# Altium schematic symbol library General.SchLib: 31 symbols
Pins are listed as number, name and electrical type; pins without a type are passive.

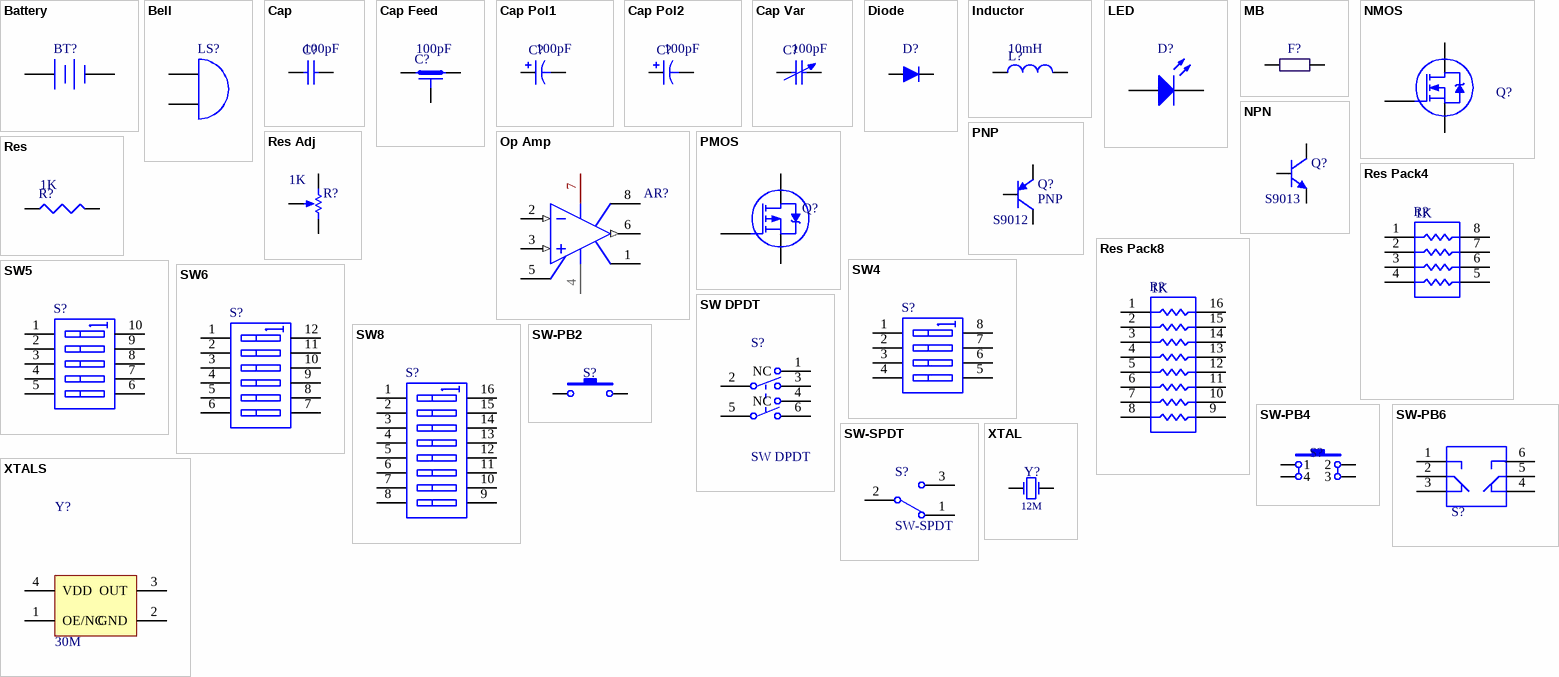
[diagram p0: symbols Battery to XTALS]

## Battery
designator BT?
Battery; Published: 24-Mar-1999; LatestRevisionDate: 17-Jul-2002; LatestRevisionNote: Re-released for DXP Platform.; PackageReference: BAT-2; Publisher: Altium Limited; PackageDescription: Battery; 2 Leads
footprint BATTERY
pins: 1 +, 2 -

## Bell
designator LS?
Electrical Bell; Published: 24-Mar-1999; LatestRevisionDate: 17-Jul-2002; LatestRevisionNote: Re-released for DXP Platform.; PackageReference: PIN2; Publisher: Altium Limited
footprint Beep 9*5mm (蜂鸣器9mm*5mm)
pins: 1 A, 2 B

## Cap
designator C?  value 100pF
Capacitor; Published: 8-Jun-2000; LatestRevisionDate: 29-May-2009; LatestRevisionNote: IPC-7351 Footprint Added.; PackageReference: C1206; Publisher: Altium Limited; PackageDescription: Chip Capacitor
footprint C0603 (Chip Capacitor, Body 1.6x0.8mm, IPC High Density)
footprint C0402 (Chip Capacitor, Body 1.0x0.5mm, IPC High Density)
footprint C0805_N (Chip Capacitor, Body 2.0x1.2mm, IPC Medium Density)
footprint C0805_L (Chip Capacitor, Body 2.0x1.2mm, IPC High Density)
footprint C1206 (Chip Capacitor, 2-Leads, Body 3.20x1.60mm, IPC Medium Density)
footprint C1210 (Chip Capacitor, Body 3.2x2.5mm, IPC High Density)
footprint C1812 (Chip Capacitor, Body 4.5x3.2mm, IPC High Density)
footprint C2010 (Chip Capacitor, Body 5.0x2.5mm, IPC High Density)
footprint C2220 (Chip Capacitor, Body 5.7x5.0mm, IPC High Density)
footprint C2512 (Chip Capacitor, Body 6.4x3.2mm, IPC High Density)
pins: 1, 2

## Cap Feed
designator C?  value 100pF
Feed-Through Capacitor; Note: Commonly used for bypassing high-frequency currents to chassis; Published: 24-Mar-1999; LatestRevisionDate: 17-Jul-2002; LatestRevisionNote: Re-released for DXP Platform.; PackageReference: VR4; Publisher: Altium Limited; PackageDescription: Variable Resistor, Thru-Hole; 3 Leads
footprint C-Feed0603 (穿芯电容 SMD 0603 (1608)  低密度)
footprint C-Feed0805 (穿芯电容0805-低密度)
pins: 1, 2, 3

## Cap Pol1
designator C?  value 100pF
Polarized Capacitor (Surface Mount); Published: 8-Jun-2000; LatestRevisionDate: 17-Jul-2002; LatestRevisionNote: Re-released for DXP Platform.; PackageReference: POLAR0.8; Publisher: Altium Limited; PackageDescription: Polarized Capacitor; 2 Leads
footprint C-AVX-3216 (钽电容3.2*1.6mm)
footprint C-AVX-3528 (钽电容3.5*2.8mm)
footprint C-AVX-6032 (钽电容6*3.2mm)
footprint C-AVX-7343 (钽电容7.3*4.3mm 低密度)
footprint C-RB-SD3
footprint C-RB-SD4 (贴片铝电解)
footprint C-RB-SD5
footprint C-RB-SD6.3 (贴片铝电解)
footprint C-RB-SD7
footprint C-RB-SD8 (贴片铝电解)
footprint C-RB-SD10 (贴片铝电解)
footprint C-RB-SD12.5
footprint C-RB-SD16
pins: 1, 2
1 alternate drawing of the same symbol

## Cap Pol2
designator C?  value 100pF
Polarized Capacitor (Radial); Published: 8-Jun-2000; LatestRevisionDate: 17-Jul-2002; LatestRevisionNote: Re-released for DXP Platform.; PackageReference: POLAR0.8; Publisher: Altium Limited; PackageDescription: Polarized Capacitor; 2 Leads
footprint C-DIP-5 (2.5*5*11mm  22uF/50V)
footprint C-DIP-8 (3.5*8*12mm  470uF/25V)
footprint C-DIP-10 (5*10*17mm  470uF/35V 1000uF/25V)
footprint C-DIP-16 (7.5*15*25mm  2200uF/35V)
footprint C-DIP-18 (10*20*31.5mm  4700uF/50V)
footprint C-RAD-0.1 (Radial Cap, Thru-Hole; 2 Leads; 100mil(2.54mm) in Pin Spacing)
footprint C-RAD-0.2 (Radial Cap, Thru-Hole; 2 Leads; 200mil(5.08mm) in Pin Spacing)
footprint C-RAD-0.3 (Radial Cap, Thru-Hole; 2 Leads; 0.3 in Pin Spacing)
footprint C-RAD-0.4 (Radial Cap, Thru-Hole; 2 Leads; 0.4 in Pin Spacing)
footprint C-RAD-22mm
footprint C-RAD-15MM (Radial Cap, Thru-Hole; 2 Leads; 15mm in Pin Spacing)
pins: 1, 2
1 alternate drawing of the same symbol

## Cap Var
designator C?  value 100pF
Variable or Adjustable Capacitor; Published: 24-Mar-1999; LatestRevisionDate: 29-May-2009; LatestRevisionNote: IPC-7351 Footprint Added.; PackageReference: C1210; Publisher: Altium Limited; PackageDescription: Chip Capacitor 1210 Case Size; Code_JEITA: 1210; Code_IPC: CAPC3225
footprint C-Var-TZB4 (muRata Ceramic Trimmer Capacitors, TZB4, 4.0(W)x4.5(L)x3.0(H)mm)
footprint C-Var-TZC3P (muRata Ceramic Trimmer Capacitors, TZC3, 3.2(W)x4.5(L)x1.6(H)mm)
pins: 1, 2

## Diode
designator D?
Default Diode; Published: 8-Jun-2000; LatestRevisionDate: 17-Jul-2002; LatestRevisionNote: Re-released for DXP Platform.; PackageVersion: Sep-1996; PackageReference: SMC; Publisher: Altium Limited; PackageDescription: DO-214-AB/SMC; 2 C-Bend Leads; Body 7.9 x 5.9 mm, inc. leads (LxW); Code_JEDEC: DO-214-AB
footprint D-SMA
footprint D-SMB (DO-214-AA/SMB;)
footprint D-SMC (贴片二极管)
footprint D-LL34
footprint SOD-123 (SOD, 2-Leads, Body 2.69x1.6mm)
footprint SOD-323 (SOD, 2-Leads, Body 1.7x1.25mm)
footprint SOD-523 (SOD, 2-Leads, Body 1.2x0.8mm)
footprint SOD-923 (SOD, 2-Leads, Body 0.8x0.6mm)
pins: 1 A, 2 K

## Inductor
designator L?  value 10mH
Inductor; Code_IEC: 1005; Published: 8-Jun-2000; LatestRevisionDate: 29-May-2009; LatestRevisionNote: IPC-7351 Footprint Added.; PackageReference: 0402-A; Publisher: Altium Limited; PackageDescription: Chip Inductor; Code_JEITA: 0402
footprint L0603 (Chip Inductor, Body 1.6x0.8mm, IPC High Density)
footprint L0805_L (Chip Inductor, Body 2.0x1.2mm, IPC High Density)
footprint L0805_N (Chip Inductor, Body 2.0x1.2mm, IPC Medium Density)
footprint XFL4020 (W*L*H 4mm*4mm*2mm)
footprint WHC0420 (7*7*3,4A)
footprint WHC1265 (12.8*13.2*5,7.5A)
footprint L-SMD-12*12MM (功率电感 1.2cm*1.2cm)
footprint L-SMD-7*7mm (贴片电感7*7mm)
footprint L-SOP74
footprint L-RB-8 (工字电感 直立)
footprint L-RB-8F (工字电感   侧卧电感)
pins: 1, 2

## LED
designator D?
Typical LED; Published: 8-Jun-2000; LatestRevisionDate: 08-Jul-2005; LatestRevisionNote: Mech Layer 1 removed.; PackageReference: LED-0; Publisher: Altium Limited; PackageDescription: LED; 2 Leads
footprint LED0603 (Chip LED, Body 1.6x0.8mm, IPC High Density)
footprint LED0805 (Chip LED, Body 2.0x1.2mm, IPC Medium Density)
footprint LED1206 (贴片元件)
footprint LED3528 (SM LED; 2 C-Bend Leads; Body 3.5 x 2.8 x 1.9 mm, inc leads (LxWxH typ))
pins: 1 A, 2 K

## MB
designator F?  (value not drawn)
铁氧体磁珠
footprint MB0603 (Chip Resistor, Body 1.6x0.8mm, IPC High Density)
footprint MB0805_L (Chip Resistor, Body 2.0x1.2mm, IPC High Density)
footprint MB0805_M (Chip Resistor, Body 2.0x1.2mm, IPC Medium Density)
footprint MB1206 (Chip Resistor, 2-Leads, Body 3.20x1.60mm, IPC Medium Density)
footprint MB-AXIL
pins: 1 (power), 2 (power)

## NMOS
designator Q?
N-Channel Power MOSFET; Note: Pin 2 is electrically connected to pin 4.; Published: 8-Jun-2000; LatestRevisionDate: 17-Jul-2002; LatestRevisionNote: Re-released for DXP Platform.; DatasheetVersion: PD-9.814; PackageVersion: Feb-1997; PackageReference: TO-220AB; Publisher: Altium Limited; PackageDescription: TO, Thru-Hole, Vertical, Heatsink Mounted; 3 In-Line Leads; Pitch 2.54 mm; ComponentLink1Description: Manufacturer Link; ComponentLink1URL: http://www.irf.com/
footprint SOT23-3_L (SOT23, 3-Leads, Body 2.9x1.3mm, Pitch 0.95mm, Lead Span 2.3mm - Reverse Pinning, IPC High Density)
footprint SOT23-3_M (SOT23, 3-Leads, Body 2.9x1.3mm, Pitch 0.95mm, Lead Span 2.3mm - Reverse Pinning, IPC Low Density)
footprint SOT23-3_N (SOT23, 3-Leads, Body 2.9x1.3mm, Pitch 0.95mm, Lead Span 2.3mm - Reverse Pinning, IPC Medium Density)
pins: 1 G, 2 S, 3 D

## NPN
designator Q?  Model: S9013  (hidden comment: NPN)
NPN General Purpose Amplifier
footprint TO-92C-S
footprint TO-226 (TO, Flat Index; 3 In-Line, Axial Leads; Body Dia. 4.8mm; Leads 0.55 x 0.51 mm (max))
footprint SOT23-3_L (SOT23, 3-Leads, Body 2.9x1.3mm, Pitch 0.95mm, Lead Span 2.3mm - Reverse Pinning, IPC High Density)
footprint SOT23-3_M (SOT23, 3-Leads, Body 2.9x1.3mm, Pitch 0.95mm, Lead Span 2.3mm - Reverse Pinning, IPC Low Density)
footprint SOT23-3_N (SOT23, 3-Leads, Body 2.9x1.3mm, Pitch 0.95mm, Lead Span 2.3mm - Reverse Pinning, IPC Medium Density)
pins: 1 B, 2 E, 3 C

## Op Amp
designator AR?
General Operational Amplifier; Published: 8-Jun-2000; LatestRevisionDate: 17-Jul-2002; LatestRevisionNote: Re-released for DXP Platform.; DatasheetVersion: REV. B; PackageVersion: 1990; PackageReference: H-08A; Publisher: Altium Limited; PackageDescription: Can; 8 Leads; Pin Circle Dia. 5.08 mm; Lead Dia. 0.53 mm (max); ComponentLink1Description: Manufacturer Link; ComponentLink1URL: http://www.analog.com/
footprint SOIC8_L (SOIC, 8-Leads, Body 4.9x3.9mm, Pitch 1.27mm, IPC High Density)
footprint SOIC8_M (SOIC, 8-Leads, Body 4.9x3.9mm, Pitch 1.27mm, IPC Low Density)
footprint SOIC8_N (SOIC, 8-Leads, Body 4.9x3.9mm, Pitch 1.27mm, IPC Medium Density)
pins: 1 OS NUL, 2 IN- (in), 3 IN+ (in), 4 V- (power), 5 OS NUL, 6 OUT (out), 7 V+ (power), 8 TAB

## PMOS
designator Q?
P-Channel Power MOSFET; Note: Pin 4 not drawn and electrically connected to Pin 2.; Published: 8-Jun-2000; LatestRevisionDate: 17-Jul-2002; LatestRevisionNote: Re-released for DXP Platform.; DatasheetVersion: PD-9.390D; PackageVersion: Feb-1997; PackageReference: TO-220AB; Publisher: Altium Limited; PackageDescription: TO, Thru-Hole, Vertical, Heatsink Mounted; 3 In-Line Leads; Pitch 2.54 mm; ComponentLink1Description: Manufacturer Link; ComponentLink1URL: http://www.irf.com/
footprint SOT23-3_L (SOT23, 3-Leads, Body 2.9x1.3mm, Pitch 0.95mm, Lead Span 2.3mm - Reverse Pinning, IPC High Density)
footprint SOT23-3_M (SOT23, 3-Leads, Body 2.9x1.3mm, Pitch 0.95mm, Lead Span 2.3mm - Reverse Pinning, IPC Low Density)
footprint SOT23-3_N (SOT23, 3-Leads, Body 2.9x1.3mm, Pitch 0.95mm, Lead Span 2.3mm - Reverse Pinning, IPC Medium Density)
pins: 1 G, 2 S, 3 D

## PNP
designator Q?  Model: S9012
PNP General Purpose Amplifier
footprint TO-92C-S
footprint TO-226 (TO, Flat Index; 3 In-Line, Axial Leads; Body Dia. 4.8mm; Leads 0.55 x 0.51 mm (max))
footprint SOT23-3_L (SOT23, 3-Leads, Body 2.9x1.3mm, Pitch 0.95mm, Lead Span 2.3mm - Reverse Pinning, IPC High Density)
footprint SOT23-3_M (SOT23, 3-Leads, Body 2.9x1.3mm, Pitch 0.95mm, Lead Span 2.3mm - Reverse Pinning, IPC Low Density)
footprint SOT23-3_N (SOT23, 3-Leads, Body 2.9x1.3mm, Pitch 0.95mm, Lead Span 2.3mm - Reverse Pinning, IPC Medium Density)
pins: 1 B, 2 E, 3 C

## Res
designator R?  value 1K
Resistor; Published: 8-Jun-2000; LatestRevisionDate: 29-May-2009; LatestRevisionNote: IPC-7351 Footprint Added.; PackageReference: J1-0603; Publisher: Altium Limited; PackageDescription: Chip Resistor
footprint R0603 (Chip Resistor, Body 1.6x0.8mm, IPC High Density)
footprint R0402 (Chip Resistor, Body 1.0x0.5mm, IPC High Density)
footprint R0805_M (Chip Resistor, Body 2.0x1.2mm, IPC Medium Density)
footprint R0805_L (Chip Resistor, Body 2.0x1.2mm, IPC High Density)
footprint R1206 (Chip Resistor, 2-Leads, Body 3.20x1.60mm, IPC Medium Density)
footprint R1210 (Chip Resistor, Body 3.2x2.5mm, IPC High Density)
footprint R1812 (Chip Resistor,  Body 4.5x3.2mm, IPC High Density)
footprint R2010 (Chip Resistor, Body 5.0x2.5mm, IPC High Density)
footprint R2512 (Chip Resistor, Body 6.4x3.2mm, IPC High Density)
pins: 1, 2

## Res Adj
designator R?  value 1K
Potentiometer; Sim Note: Enter the Resistance value and the set point into parameter fields.; Set Position: 0.5; Published: 8-Jun-2000; LatestRevisionDate: 17-Jul-2002; LatestRevisionNote: Re-released for DXP Platform.; PackageReference: VR5; Publisher: Altium Limited; PackageDescription: Variable Resistor, Thru-Hole; 3 Leads
footprint R-VR-3296W (Potentiometer; 3 Leads)
footprint R-VR-3362P
footprint R-VR-065 (蓝白可调电位器)
footprint R-VR-SMD (贴片式滑动变阻器)
footprint R-VR-A
footprint R-VR-3590S
pins: 1 TOP, 2 TAP, 3 BOT
1 alternate drawing of the same symbol

## Res Pack4
designator R?  value 1K
Isolated Resistor Network; Published: 24-Mar-1999; LatestRevisionDate: 29-May-2009; LatestRevisionNote: IPC-7351 Footprint Added.; PackageReference: SO-16; Publisher: Altium Limited; PackageDescription: 16-Pin Small Outline Integrated Circuit 1.27 mm Pitch; Code_JEDEC: MS-012-AC; Code_IPC: SOIC127P600-16
footprint R0603-Pack4-Concave-L (Chip Array, Concave, 8-Leads, Pitch 0.80mm,  Body 3.20x1.60mm,  IPC Medium Density)
footprint R0603-Pack4-Convexs-L (Chip Array, ConvexS, 8-Leads, Pitch 0.80mm,  Body 3.20x1.60mm,  IPC High Density)
footprint R0402-Pack4 (排阻 4 0402)
pins: 1, 2, 3, 4, 5, 6, 7, 8

## Res Pack8
designator R?  value 1K
Isolated Resistor Network; Published: 24-Mar-1999; LatestRevisionDate: 29-May-2009; LatestRevisionNote: IPC-7351 Footprint Added.; PackageReference: SO-16; Publisher: Altium Limited; PackageDescription: 16-Pin Small Outline Integrated Circuit 1.27 mm Pitch; Code_JEDEC: MS-012-AC; Code_IPC: SOIC127P600-16
footprint R0603-Pack8 (排阻 8 0603)
pins: 1, 2, 3, 4, 5, 6, 7, 8, 9, 10, 11, 12, 13, 14, 15, 16

## SW4
designator S?  (value not drawn)
4位拨码开关
footprint SW-4-DIP (4位直插拨码开关)
footprint SW-4-SMD (4位贴片拨码开关)
footprint SW-4-SMD-1.27mm (SWITCH, 8-Leads, Body 6.68x5.40mm, Pitch 1.27mm)
pins: 1 A1, 2 A2, 3 A3, 4 A4, 5, 6 A6, 7 A7, 8 A8

## SW5
designator S?, comment SW4  (value not drawn)
5位拨码开关
footprint SW-5-DIP (14.2*9.9*7mm)
footprint SW-5-SMD-1.27mm (SWITCH, 10-Leads, Pitch 1.27mm)
pins: 1 A1, 2 A2, 3 A3, 4 A4, 5, 6 A6, 7 A7, 8 A8, 9 A9, 10 A10

## SW6
designator S?, comment SW4  (value not drawn)
6位拨码开关
footprint SW-6-SMD-1.27mm (SWITCH, 12-Leads, Pitch 1.27mm)
pins: 1 A1, 2 A2, 3 A3, 4 A4, 5, 6 A6, 7 A7, 8 A8, 9 A9, 10 A10, 11 A11, 12 A12

## SW8
designator S?  (value not drawn)
8位拨码开关
footprint SW-8-DIP (8位直插拨码开关)
footprint SW-8-SMD (4位贴片拨码开关)
footprint SW-8-SMD-1.27mm (SWITCH, 16-Leads, Pitch 1.27mm)
pins: 1 A1, 2 A2, 3 A3, 4 A4, 5 A5, 6 A6, 7 A7, 8 A8, 9 B8, 10 B7, 11 B6, 12 B5, 13 B4, 14 B3, 15 B2, 16 B1

## SW DPDT
designator S?
自锁开关; Published: 24-Mar-1999; LatestRevisionDate: 29-May-2009; LatestRevisionNote: IPC-7351 Footprint Added.; PackageVersion: Mar-2001; PackageReference: SOT23-6; Publisher: Altium Limited; PackageDescription: 6-Pin SOT-23 Package 0.95 mm Pitch, 2.7 mm Lead Span; Code_JEITA: SC-74; Code_IPC: SOT26A-6
footprint SW-DPDT-8.5*8.5
footprint SW-DPDT-7*7
pins: 1 NC, 2 1, 3 NO1, 4 NC, 5 COMMON2, 6 NO2

## SW-PB2
designator S?  (value not drawn)
2脚微动开关
footprint SW-DIP2 (3*6*4.3mm)
footprint SW-SMD2 (贴片2脚微动开关)
pins: 1, 2

## SW-PB4
designator S?  (value not drawn)
4脚微动开关
footprint SW-DIP4 (直插4脚微动开关)
footprint SW-SMD4 (贴片4脚微动开关)
pins: 1, 2, 3, 4

## SW-PB6
designator S?, comment SW  (value not drawn)
双掷开关
footprint SW-DIP6 (双掷开关)
pins: 1, 2, 3, 4, 5, 6

## SW-SPDT
designator S?
SPDT Subminiature Toggle Switch, Right Angle Mounting, Vertical Actuation; ComponentLink1Description: Manufacturer Link; ComponentLink1URL: http://www.apem.com
footprint SW-SPDT (侧卧拨动开关)
footprint SW-SPDT_无固定脚 (侧卧拨动开关)
pins: 1, 2, 3

## XTAL
designator Y?  value 12M  (hidden comment: XTAL)
Crystal Oscillator
footprint XTAL32
footprint XTAL-PB2-DIP
footprint XTAL-PB2-SMD
footprint XTAL32-SOP
pins: 1 OSC1, 2 OSC2

## XTALS
designator Y?  value 30M  (hidden comment: XTALS)
贴片有源晶振
footprint XTAL-7050_L
footprint XTAL-7050_M (5*7mm)
footprint XTAL-6035
footprint XTAL-5032
footprint XTAL-3225
footprint XTAL
pins: 1 OE/NC, 2 GND, 3 OUT, 4 VDD